# EAGLE library part BQ29700DSET_BQ29700DSET (library SolarPowerBoard)
Texas Instruments BQ29700DSET, Battery Charger Lithium-Ion, Lithium-Polymer, 6-Pin WSON Source: Datasheet <http://www.ti.com/lit/ds/symlink/bq2970.pdf>
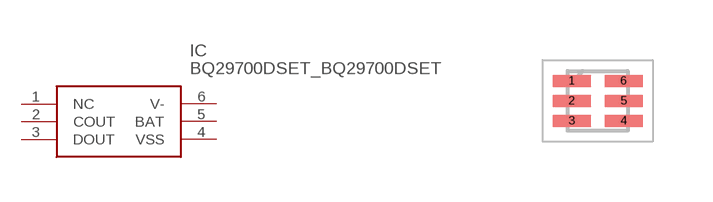
[diagram p0: symbol with the pads of BQ29700DSET_SON50P150X150X80-6N; footprint BQ29700DSET_SON50P150X150X80-6N]

Designator prefix IC

## BQ29700DSET_BQ29700DSET (ARROW_PART_NUMBER: BQ29700DSET; ARROW_PRICE-STOCK: https://www.arrow.com/en/products/bq29700dset/texas-instruments; DESCRIPTION: Texas Instruments BQ29700DSET, Battery Charger Lithium-Ion, Lithium-Polymer, 6-Pin WSON; HEIGHT: 0.8mm; MANUFACTURER_NAME: Texas Instruments; MANUFACTURER_PART_NUMBER: BQ29700DSET; RS_PART_NUMBER: 1456841; RS_PRICE-STOCK: http://uk.rs-online.com/web/p/products/1456841)  [BQ29700DSET_SON50P150X150X80-6N]
1  NC  nc
2  COUT  out
3  DOUT  out
4  VSS  pwr
5  BAT  pwr
6  V-  pwr

## Footprint BQ29700DSET_SON50P150X150X80-6N (pad centres in mm)
DSE(S-PDSO-N6)_1
smd 0.95 x 0.3: 1 -0.65,0.5; 2 -0.65,0; 3 -0.65,-0.5; 4 0.65,-0.5; 5 0.65,0; 6 0.65,0.5